# Altium footprint library ADEX-10L_CD542.PcbLib: 1 footprints
Each footprint in its own frame and in the unit in brackets; x right, y up, seen from the top. Pads: shape width x height; smd on the part's side, far side on the other; paste and mask are expansions set on the pad; w line width, h text height; cw(c..) or ccw(c..) is an arc to the next point about the centre after c.
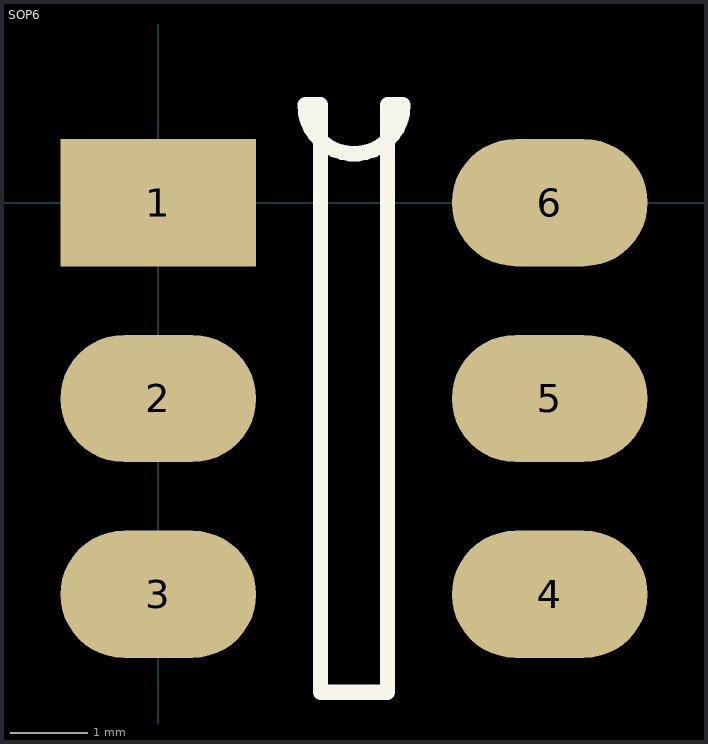
[diagram p0: the footprint, top view; thin cyan lines are the x and y axes]

## SOP6 [mm]
pads (6):
  rect 2.54x1.65 smd: 1(0,0)
  oval 2.54x1.65 smd: 2(0,-2.54) 3(0,-5.08) 4(5.08,-5.08) 5(5.08,-2.54) 6(5.08,0)
Top Overlay:
  lines w0.2: 1.905,1.27 ccw(c2.54,1.27) 3.175,1.27 2.975,1.27 2.975,-6.35 2.105,-6.35 2.105,1.27 1.905,1.27